# Altium schematic symbol library Capacitors.SchLib: 21 symbols
Pins are listed as number, name and electrical type; pins without a type are passive.

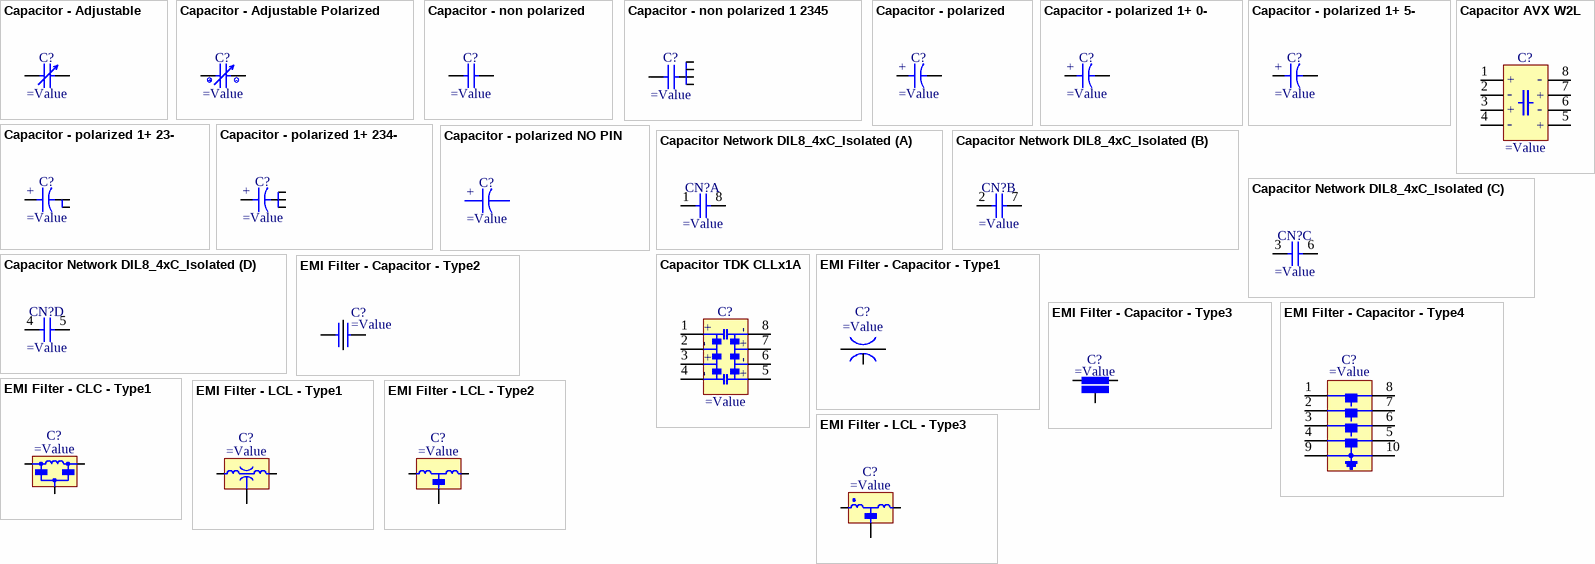
[diagram p0: symbols Capacitor - Adjustable to EMI Filter - LCL - Type3]

## Capacitor - Adjustable
designator C?
Adjustable Capacitor
pins: 1, 2

## Capacitor - Adjustable Polarized
designator C?
Adjustable Ceramic Trimmer Capacitor
pins: 1, 2

## Capacitor - non polarized
designator C?
Non-polarised capacitor
pins: 1, 2

## Capacitor - non polarized 1 2345
designator C?
5 Pin (1 + 4 Pin) Non-polarised capacitor
pins: 1, 2, 3, 4, 5

## Capacitor - polarized
designator C?
Polarised capacitor
pins: 1, 2
text: +

## Capacitor - polarized 1+ 0-
designator C?
Polarised capacitor
pins: 0, 1
text: +

## Capacitor - polarized 1+ 5-
designator C?
Polarised capacitor
pins: 1, 5
text: +

## Capacitor - polarized 1+ 23-
designator C?
Polarised capacitor
pins: 1, 2, 3
text: +

## Capacitor - polarized 1+ 234-
designator C?
Polarised capacitor
pins: 1, 2, 3, 4
text: +

## Capacitor - polarized NO PIN
designator C?
Polarised capacitor NO PIN
text: +

## Capacitor AVX W2L
designator C?
IDC (InterDigitated Capacitors) Low Inductance Capacitors
pins: 1, 2, 3, 4, 5, 6, 7, 8
text: +; -

## Capacitor Network DIL8_4xC_Isolated
designator CN?
DIL8 Capacitor Network 4 Isolated Capacitors
part A pins: 1, 8
part B pins: 2, 7
part C pins: 3, 6
part D pins: 4, 5

## Capacitor TDK CLLx1A
designator C?
Ultra Low Inductance Capacitor, TDK CLL Serie
pins: 1, 2, 3, 4, 5, 6, 7, 8
text: +; -

## EMI Filter - Capacitor - Type1
designator C?
EMI Filter - Capacitor Type 1
pins: 1, 2, 3

## EMI Filter - Capacitor - Type2
designator C?
EMI Filter - Capacitor Type 2
pins: 1, 2, G1, G2

## EMI Filter - Capacitor - Type3
designator C?
EMI Filter - Capacitor Type 3
pins: 1, 2, 3

## EMI Filter - Capacitor - Type4
designator C?
EMI Filter - Capacitor Type 4
pins: 1, 2, 3, 4, 5, 6, 7, 8, 9 GND (power), 10 GND (power)

## EMI Filter - CLC - Type1
designator C?
EMI PI Filter
pins: 1, 2, G

## EMI Filter - LCL - Type1
designator C?
EMI Filter (LC Combined)
pins: 1, 2, 3

## EMI Filter - LCL - Type2
designator C?
EMI Filter (LC Combined)
pins: 1, 2, 3

## EMI Filter - LCL - Type3
designator C?
EMI Filter (LC Combined)
pins: 1 (in), 2 (power), 3 (out)